# Altium footprint library PCB_library.PcbLib: 19 footprints (part 1 of 2)
Each footprint in its own frame and in the unit in brackets; x right, y up, seen from the top. Pads: shape width x height; smd on the part's side, far side on the other; paste and mask are expansions set on the pad; w line width, h text height; cw(c..) or ccw(c..) is an arc to the next point about the centre after c.
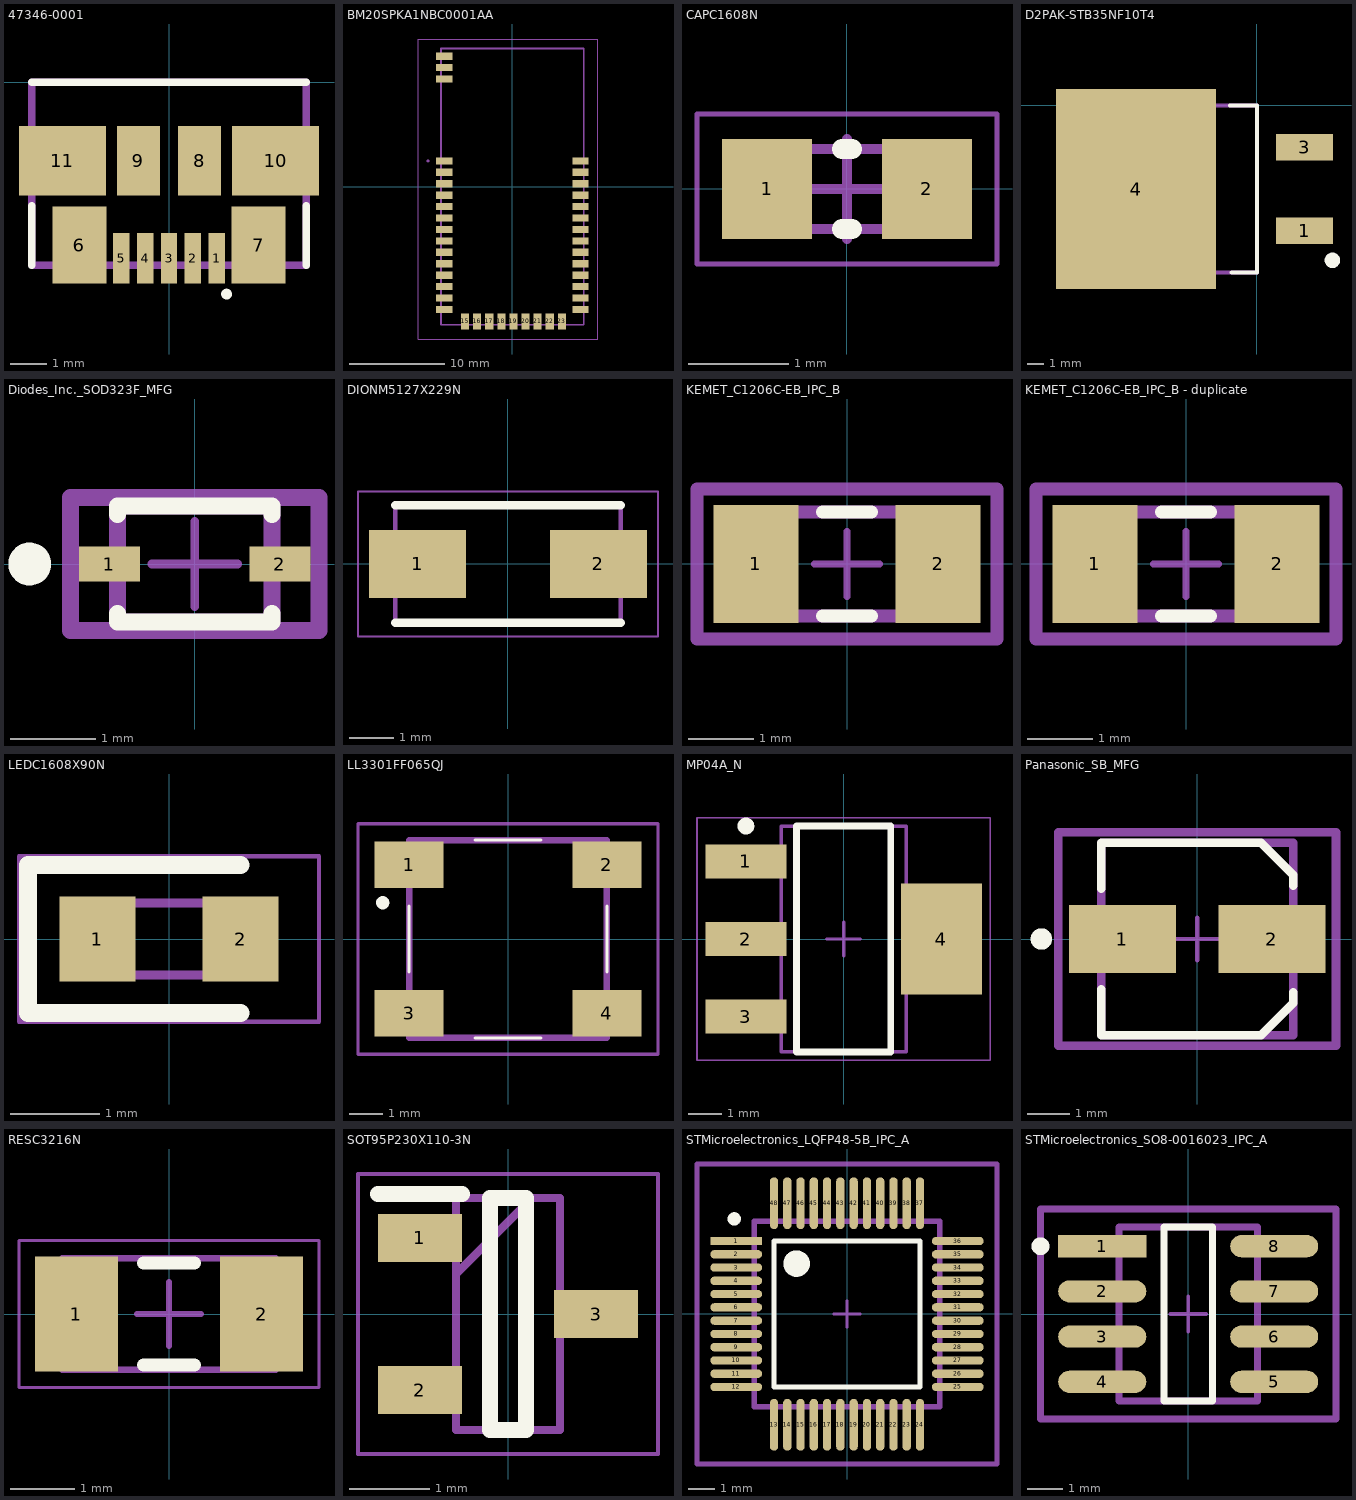
[diagram p0: the footprints below, top view; thin cyan lines are the x and y axes]

## 47346-0001 [mm]
pads (11):
  rect 0.45x1.38 smd: 1(1.3,-4.81) 2(0.65,-4.81) 3(0,-4.81) 4(-0.65,-4.81) 5(-1.3,-4.81)
  rect 1.475x2.1 smd: 6(-2.452,-4.45) 7(2.452,-4.45)
  rect 1.175x1.9 smd: 8(0.837,-2.15) 9(-0.837,-2.15)
  rect 2.375x1.9 smd: 10(2.913,-2.15) 11(-2.913,-2.15)
Top Overlay:
  circle w0.2: c1.572,-5.79 r0.046
  lines w0.2: -3.75,-5 -3.75,-3.373 ; -3.75,0 3.75,0 ; 3.75,-5 3.75,-3.373
Mechanical 13:
  lines w0.2: -3.75,-5 -3.75,0 3.75,0 3.75,-5 -3.75,-5
3D body "47346-0001.stp": height 2.66, standoff -0.05, extent -3.9,-5 3.9,0

## BM20SPKA1NBC0001AA [mil]
pads (40):
  rect 66.93x29.92 smd: 1(-281.5,106.3) 2(-281.5,59.06) 3(-281.5,11.81) 4(-281.5,-35.43) 5(-281.5,-82.68) 6(-281.5,-129.92) 7(-281.5,-177.17) 8(-281.5,-224.41) 9(-281.5,-271.65) 10(-281.5,-318.9) 11(-281.5,-366.14) 12(-281.5,-413.39) 13(-281.5,-460.63) 14(-281.5,-507.87) 24(281.5,-507.87) 25(281.5,-460.63) 26(281.5,-413.39) 27(281.5,-366.14) 28(281.5,-318.9) 29(281.5,-271.65) 30(281.5,-224.41) 31(281.5,-177.17) 32(281.5,-129.92) 33(281.5,-82.68) 34(281.5,-35.43) 35(281.5,11.81) 36(281.5,59.06) 37(281.5,106.3) 38(-281.5,539.37) 39(-281.5,492.13) 40(-281.5,444.88)
  rect 33.46x66.93 smd: 15(-195.28,-557.09) 16(-145.28,-557.09) 17(-95.28,-557.09) 18(-45.28,-557.09) 19(4.72,-557.09) 20(54.72,-557.09) 21(104.72,-557.09) 22(154.72,-557.09) 23(204.72,-557.09)
Mechanical 3:
  lines w3.94: -389.76,-629.92 -389.76,610.24 354.33,610.24 354.33,-629.92 -389.76,-629.92
  lines w7.87: -295.28,-570.87 -295.28,570.87 295.28,570.87 295.28,-570.87 -295.28,-570.87
Mechanical 7:
  lines w3.94: -295.28,-570.87 -295.28,-551.18 -295.28,-570.87 ; -295.28,-570.87 -236.22,-570.87 -295.28,-570.87 ; 295.28,-570.87 246.06,-570.87 295.28,-570.87 ; 295.28,-570.87 295.28,-551.18 295.28,-570.87 ; 295.28,570.87 295.28,147.64 295.28,570.87 ; 295.28,570.87 -295.28,570.87 295.28,570.87 ; -295.28,147.64 -295.28,403.54 -295.28,147.64
  lines w7.87: -350.39,106.3 ccw(c-348.43,106.3) -346.46,106.3 ; -350.39,106.3 cw(c-348.43,106.3) -346.46,106.3 ; -350.39,106.3 ccw(c-348.43,106.3) -346.46,106.3
3D body "BM20SPKA1NBC-0001AA.stp": height 102.36, standoff 0, extent -295.27,-570.86 295.28,570.87
3D body "BM20SPKA1NBC-0001AA.stp": height 102.36, standoff 0, extent -295.27,-570.86 295.28,570.87
3D body "BM20SPKA1NBC-0001AA.stp": height 102.36, standoff 0, extent -295.27,-570.86 295.28,570.87

## CAPC1608N [mm] "Chip Capacitor, Body 1.6x0.8mm, Height 0.55mm, IPC Medium Density"
height 0.55
pads (2):
  rect 0.9x1 smd: 1(-0.8,0) 2(0.8,0)
Top Overlay:
  lines w0.2: -0.05,-0.4 0.05,-0.4 ; -0.05,0.4 0.05,0.4
Mechanical 6:
  text ".Designator" at -0.675,-0.225 h0.75
Mechanical 8:
  lines w0.1: -0.8,-0.4 0.8,-0.4 0.8,0.4 -0.8,0.4 -0.8,-0.4
Mechanical 15:
  lines w0.05: -1.5,-0.75 -1.5,0.75 1.5,0.75 1.5,-0.75 -1.5,-0.75
  lines w0.1: -0.5,0 0.5,0 ; 0,-0.5 0,0.5
3D body "CAPC1608X55N EIA 0603.step": height 0.54, standoff -0.01, extent -0.8,-0.4 0.8,0.4

## D2PAK-STB35NF10T4 [mm]
pads (3):
  rect 3.5x1.6 smd: 1(2.904,-7.64) 3(2.904,-2.56)
  rect 9.75x12.2 smd: 4(-7.371,-5.1)
Top Overlay:
  circle w0.5: c4.603,-9.449 r0.219
  lines w0.254: -1.644,0 0,0 0,-10.2 -1.535,-10.2
Mechanical 13:
  lines w0.254: -9.15,-10.2 0,-10.2 0,0 -9.15,0 -9.15,-10.2
3D body "L7805ABD2T-TR.stp": height 4.6, standoff 0, extent -11.645,-10.282 4.247,0.082

## Diodes_Inc._SOD323F_MFG [mm]
pads (2):
  rect 0.71x0.403 smd paste+0 mask+0: 1(-0.995,0) 2(0.995,0)
Top Overlay:
  circle w0.25: c-1.925,0 r0.125
  lines w0.2: -0.9,-0.577 -0.9,-0.675 0.9,-0.675 0.9,-0.577 ; -0.9,0.577 -0.9,0.675 0.9,0.675 0.9,0.577
Mechanical 10:
  lines w0.2: -1.45,-0.775 -1.45,0.775 1.45,0.775 1.45,-0.775 -1.45,-0.775
  text ".Designator" at 0,0 h1
Mechanical 12:
  lines w0.2: -0.9,-0.675 -0.9,0.675 0.9,0.675 0.9,-0.675 -0.9,-0.675
Mechanical 15:
  lines w0.1: -0.5,0 0.5,0 ; 0,-0.5 0,0.5
  lines w0.2: -1.45,-0.775 -1.45,0.775 1.45,0.775 1.45,-0.775 -1.45,-0.775
3D body "Diode_Diodes_Inc._1N4148WSF-7_eec.STEP": height 0.25, standoff 0, extent -1.45,-0.775 1.45,0.775

## DIONM5127X229N [mm]
pads (2):
  rect 2.2x1.55 smd: 1(-2.05,0) 2(2.05,0)
Top Overlay:
  lines w0.2: -2.552,-1.332 2.552,-1.332 ; -2.552,1.332 2.552,1.332
Mechanical 13:
  lines w0.1: -2.552,-1.332 2.552,-1.332 2.552,1.332 -2.552,1.332 -2.552,-1.332
Mechanical 15:
  lines w0.05: -3.4,-1.645 3.4,-1.645 3.4,1.645 -3.4,1.645 -3.4,-1.645
3D body "SML4747AHE3_A_H.stp": height 2.29, standoff 0, extent -2.552,-1.332 2.552,1.332

## KEMET_C1206C-EB_IPC_B [mm]
pads (2):
  rect 1.305x1.806 smd paste+0 mask+0: 1(-1.401,0) 2(1.401,0)
Top Overlay:
  lines w0.2: -0.373,-0.8 0.373,-0.8 ; -0.373,0.8 0.373,0.8
Mechanical 10:
  lines w0.2: -2.303,-1.153 -2.303,1.153 2.303,1.153 2.303,-1.153 -2.303,-1.153
  text ".Designator" at 0,0.188 h1
Mechanical 12:
  lines w0.2: -1.6,-0.8 -1.6,0.8 1.6,0.8 1.6,-0.8 -1.6,-0.8
Mechanical 15:
  lines w0.1: -0.5,0 0.5,0 ; 0,-0.5 0,0.5
  lines w0.2: -2.303,-1.153 -2.303,1.153 2.303,1.153 2.303,-1.153 -2.303,-1.153
3D body "Cap_KEMET_C1206C334K3RACTU_eec.STEP": height 0.25, standoff 0, extent -2.303,-1.153 2.303,1.153

## KEMET_C1206C-EB_IPC_B - duplicate [mm]
pads (2):
  rect 1.305x1.806 smd paste+0 mask+0: 1(-1.401,0) 2(1.401,0)
Top Overlay:
  lines w0.2: -0.373,-0.8 0.373,-0.8 ; -0.373,0.8 0.373,0.8
Mechanical 10:
  lines w0.2: -2.303,-1.153 -2.303,1.153 2.303,1.153 2.303,-1.153 -2.303,-1.153
  text ".Designator" at 0,0.188 h1
Mechanical 12:
  lines w0.2: -1.6,-0.8 -1.6,0.8 1.6,0.8 1.6,-0.8 -1.6,-0.8
Mechanical 15:
  lines w0.1: -0.5,0 0.5,0 ; 0,-0.5 0,0.5
  lines w0.2: -2.303,-1.153 -2.303,1.153 2.303,1.153 2.303,-1.153 -2.303,-1.153
3D body "Cap_KEMET_C1206C104M5RACTU_eec.STEP": height 0.25, standoff 0, extent -2.303,-1.153 2.303,1.153

## LEDC1608X90N [mm]
pads (2):
  rect 0.85x0.95 smd: 1(-0.8,0) 2(0.8,0)
Top Overlay:
  lines w0.2: 0.8,-0.825 -1.575,-0.825 -1.575,0.825 0.8,0.825
Mechanical 13:
  lines w0.1: -0.8,0.133 -0.533,0.4 ; -0.8,-0.4 0.8,-0.4 0.8,0.4 -0.8,0.4 -0.8,-0.4
Mechanical 15:
  lines w0.05: -1.675,-0.925 1.675,-0.925 1.675,0.925 -1.675,0.925 -1.675,-0.925

## LL3301FF065QJ [mm]
pads (4):
  rect 2.1x1.4 smd: 1(-3,2.25) 2(3,2.25) 3(-3,-2.25) 4(3,-2.25)
Top Overlay:
  lines w0.1: -3,-1 -3,1 ; -1,-3 1,-3 ; -1,3 1,3 ; 3,-1 3,1
  lines w0.2: -3.8,1 ccw(c-3.8,1.1) -3.8,1.2 ccw(c-3.8,1.1) -3.8,1
Mechanical 13:
  lines w0.2: -3,-3 -3,3 3,3 3,-3 -3,-3
Mechanical 15:
  lines w0.1: -4.55,-3.5 -4.55,3.5 4.55,3.5 4.55,-3.5 -4.55,-3.5
3D body "LL3301AF065QJ.stp": height 5.3, standoff 0, extent -3.3,-3 3.3,3

## MP04A_N [mm] "SOT223, 4-Leads, Body 6.5x3.5mm, Pitch 2.3mm, Lead Span 7mm, IPC Medium Density"
height 1.8
pads (4):
  rect 2.4x1 smd: 1(-2.9,2.3) 2(-2.9,0) 3(-2.9,-2.3)
  rect 2.4x3.3 smd: 4(2.9,0)
Top Overlay:
  circle w0.25: c-2.9,3.35 r0.125
  lines w0.2: -1.4,-3.35 -1.4,3.35 1.4,3.35 1.4,-3.35 -1.4,-3.35
Mechanical 13:
  lines w0.1: -1.855,-3.35 -1.855,3.35 1.855,3.35 1.855,-3.35 -1.855,-3.35
Mechanical 15:
  lines w0.05: -4.35,-3.6 -4.35,3.6 4.35,3.6 4.35,-3.6 -4.35,-3.6
  lines w0.1: -0.5,0 0.5,0 ; 0,-0.5 0,0.5
3D body: height 1.8, standoff 0.03, extent -1.855,-3.35 1.855,3.35

## Panasonic_SB_MFG [mm]
pads (2):
  rect 2.5x1.6 smd paste+0 mask+0: 1(-1.75,0) 2(1.75,0)
Top Overlay:
  circle w0.25: c-3.65,0 r0.125
  lines w0.2: -2.25,-1.175 -2.25,-2.25 1.5,-2.25 2.25,-1.5 2.25,-1.25 ; -2.25,1.175 -2.25,2.25 1.5,2.25 2.25,1.5 2.25,1.25
Mechanical 10:
  lines w0.2: -3.25,-2.5 -3.25,2.5 3.25,2.5 3.25,-2.5 -3.25,-2.5
  text ".Designator" at 0,0.188 h1
Mechanical 12:
  lines w0.2: -2.25,-2.25 -2.25,2.25 2.25,2.25 2.25,-2.25 -2.25,-2.25
Mechanical 15:
  lines w0.1: -0.5,0 0.5,0 ; 0,-0.5 0,0.5
  lines w0.2: -3.25,-2.5 -3.25,2.5 3.25,2.5 3.25,-2.5 -3.25,-2.5
3D body "Cap_Panasonic_EEE1HA010SR_eec.STEP": height 0.25, standoff 0, extent -3.25,-2.5 3.25,2.5

## RESC3216N [mm] "Chip Resistor, Body 3.2x1.6mm, IPC Medium Density"
height 0.71
pads (2):
  rect 1.3x1.8 smd: 1(-1.45,0) 2(1.45,0)
Top Overlay:
  lines w0.2: -0.4,-0.8 0.4,-0.8 ; -0.4,0.8 0.4,0.8
Mechanical 6:
  lines w0.1: -1.675,-0.875 -1.675,0.875 1.675,0.875 1.675,-0.875 -1.675,-0.875
  text ".Designator" at -1.408,-0.535 h1.75
Mechanical 15:
  lines w0.05: -2.35,-1.15 -2.35,1.15 2.35,1.15 2.35,-1.15 -2.35,-1.15
  lines w0.1: -0.5,0 0.5,0 ; 0,-0.5 0,0.5
3D body: height 0.71, standoff 0, extent -1.675,-0.875 1.675,0.875

## SOT95P230X110-3N [mm]
pads (3):
  rect 1.05x0.6 smd: 1(-1.1,0.95) 2(-1.1,-0.95) 3(1.1,0)
Top Overlay:
  lines w0.2: -1.625,1.5 -0.575,1.5 ; -0.225,-1.45 -0.225,1.45 0.225,1.45 0.225,-1.45 -0.225,-1.45
Mechanical 13:
  lines w0.1: -0.65,0.5 0.3,1.45 ; -0.65,-1.45 -0.65,1.45 0.65,1.45 0.65,-1.45 -0.65,-1.45
Mechanical 15:
  lines w0.05: -1.875,-1.75 -1.875,1.75 1.875,1.75 1.875,-1.75 -1.875,-1.75
3D body "PLVA650A,215.stp": height 1.1, standoff 0, extent -1.15,-1.45 1.15,1.45

## STMicroelectronics_LQFP48-5B_IPC_A [mm]
pads (48):
  rect 1.955x0.312 smd paste+0 mask+0: 1(-4.175,2.75)
  rrect100% 1.955x0.312 smd paste+0 mask+0: 2(-4.175,2.25) 3(-4.175,1.75) 4(-4.175,1.25) 5(-4.175,0.75) 6(-4.175,0.25) 7(-4.175,-0.25) 8(-4.175,-0.75) 9(-4.175,-1.25) 10(-4.175,-1.75) 11(-4.175,-2.25) 12(-4.175,-2.75) 25(4.175,-2.75) 26(4.175,-2.25) 27(4.175,-1.75) 28(4.175,-1.25) 29(4.175,-0.75) 30(4.175,-0.25) 31(4.175,0.25) 32(4.175,0.75) 33(4.175,1.25) 34(4.175,1.75) 35(4.175,2.25) 36(4.175,2.75)
  rrect100% 0.312x1.955 smd paste+0 mask+0: 13(-2.75,-4.175) 14(-2.25,-4.175) 15(-1.75,-4.175) 16(-1.25,-4.175) 17(-0.75,-4.175) 18(-0.25,-4.175) 19(0.25,-4.175) 20(0.75,-4.175) 21(1.25,-4.175) 22(1.75,-4.175) 23(2.25,-4.175) 24(2.75,-4.175) 37(2.75,4.175) 38(2.25,4.175) 39(1.75,4.175) 40(1.25,4.175) 41(0.75,4.175) 42(0.25,4.175) 43(-0.25,4.175) 44(-0.75,4.175) 45(-1.25,4.175) 46(-1.75,4.175) 47(-2.25,4.175) 48(-2.75,4.175)
Top Overlay:
  circle w0.25: c-4.25,3.585 r0.125
  circle w0.5: c-1.9,1.9 r0.25
  lines w0.2: -2.75,-2.75 2.75,-2.75 2.75,2.75 -2.75,2.75 -2.75,-2.75
Mechanical 10:
  lines w0.2: -5.653,-5.653 5.653,-5.653 5.653,5.653 -5.653,5.653 -5.653,-5.653
  text ".Designator" at 0,0 h1
Mechanical 12:
  lines w0.2: -3.5,-3.5 3.5,-3.5 3.5,3.5 -3.5,3.5 -3.5,-3.5
Mechanical 15:
  lines w0.1: -0.5,0 0.5,0 ; 0,-0.5 0,0.5
  lines w0.2: -5.653,-5.653 5.653,-5.653 5.653,5.653 -5.653,5.653 -5.653,-5.653
3D body "IC_STMicroelectronics_STM32G071CBT6_eec.STEP": height 0.25, standoff 0, extent -5.653,-5.653 5.653,5.653

## STMicroelectronics_SO8-0016023_IPC_A [mm]
pads (8):
  rect 2.474x0.622 smd paste+0 mask+0: 1(-2.416,1.905)
  rrect100% 2.474x0.622 smd paste+0 mask+0: 2(-2.416,0.635) 3(-2.416,-0.635) 4(-2.416,-1.905) 5(2.416,-1.905) 6(2.416,-0.635) 7(2.416,0.635) 8(2.416,1.905)
Top Overlay:
  circle w0.25: c-4.153,1.905 r0.125
  lines w0.2: -0.679,-2.45 0.679,-2.45 0.679,2.45 -0.679,2.45 -0.679,-2.45
Mechanical 10:
  lines w0.2: -4.153,-2.95 4.153,-2.95 4.153,2.95 -4.153,2.95 -4.153,-2.95
  text ".Designator" at 0,0 h1
Mechanical 12:
  lines w0.2: -1.95,-2.45 1.95,-2.45 1.95,2.45 -1.95,2.45 -1.95,-2.45
Mechanical 15:
  lines w0.1: -0.5,0 0.5,0 ; 0,-0.5 0,0.5
  lines w0.2: -4.153,-2.95 4.153,-2.95 4.153,2.95 -4.153,2.95 -4.153,-2.95
3D body "IC_STMicroelectronics_E-L9637D013TR_eec.STEP": height 0.25, standoff 0, extent -4.153,-2.95 4.153,2.95